# EAGLE library part TAS5760XDAP (library ti-audio-tas5760)
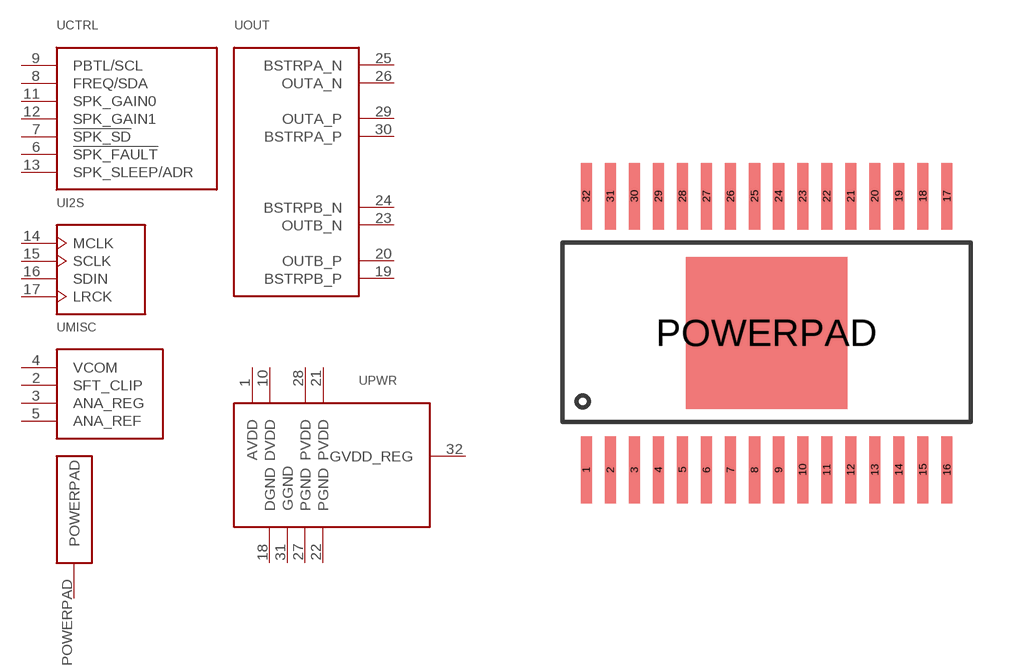
[diagram p0: symbol with the pads of DAP-32; footprint DAP-32]

Designator prefix -; gates OUT=CLS-D-OUTPUT CTRL=CONTROL I2S=I2S-PORT MISC=MISC PWR=PWR G$1=POWERPAD

## TAS5760XDAP  [DAP-32]
1  PWR:AVDD
2  MISC:SFT_CLIP
3  MISC:ANA_REG
4  MISC:VCOM
5  MISC:ANA_REF
6  CTRL:!SPK_FAULT  out
7  CTRL:!SPK_SD  in
8  CTRL:FREQ/SDA
9  CTRL:PBTL/SCL  in
10  PWR:DVDD
11  CTRL:SPK_GAIN0  in
12  CTRL:SPK_GAIN1  in
13  CTRL:SPK_SLEEP/ADR  in
14  I2S:MCLK
15  I2S:SCLK
16  I2S:SDIN  in
17  I2S:LRCK  in
18  PWR:DGND
19  OUT:BSTRPB_P  sup
20  OUT:OUTB_P  out
21  PWR:PVDD
22  PWR:PGND
23  OUT:OUTB_N  out
24  OUT:BSTRPB_N  sup
25  OUT:BSTRPA_N  sup
26  OUT:OUTA_N  out
27  PWR:PGND
28  PWR:PVDD
29  OUT:OUTA_P  out
30  OUT:BSTRPA_P  sup
31  PWR:GGND
32  PWR:GVDD_REG
POWERPAD  G$1:POWERPAD  pwr

## Footprint DAP-32 (pad centres in mm)
smd 0.3 x 1.8: 1 -4.875,-3.575; 2 -4.225,-3.575; 3 -3.575,-3.575; 4 -2.925,-3.575; 5 -2.275,-3.575; 6 -1.625,-3.575; 7 -0.975,-3.575; 8 -0.325,-3.575; 9 0.325,-3.575; 10 0.975,-3.575; 11 1.625,-3.575; 12 2.275,-3.575; 13 2.925,-3.575; 14 3.575,-3.575; 15 4.225,-3.575; 16 4.875,-3.575; 17 4.875,3.825; 18 4.225,3.825; 19 3.575,3.825; 20 2.925,3.825; 21 2.275,3.825; 22 1.625,3.825; 23 0.975,3.825; 24 0.325,3.825; 25 -0.325,3.825; 26 -0.975,3.825; 27 -1.625,3.825; 28 -2.275,3.825; 29 -2.925,3.825; 30 -3.575,3.825; 31 -4.225,3.825; 32 -4.875,3.825
smd 4.36 x 4.11: POWERPAD 0,0.127